# Altium footprint library OpenMV.PcbLib: 1 footprints
Each footprint in its own frame and in the unit in brackets; x right, y up, seen from the top. Pads: shape width x height; smd on the part's side, far side on the other; paste and mask are expansions set on the pad; w line width, h text height; cw(c..) or ccw(c..) is an arc to the next point about the centre after c.
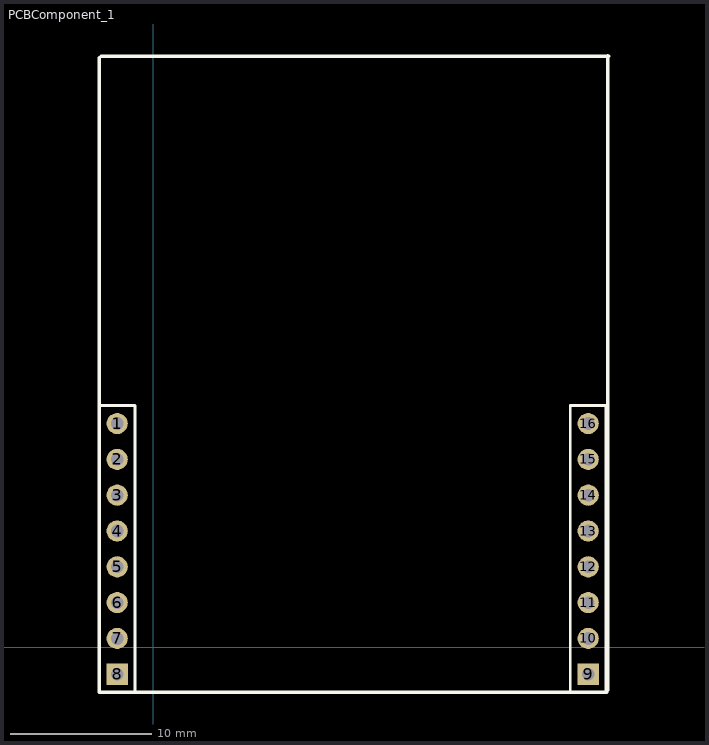
[diagram p0: the footprint, top view; thin cyan lines are the x and y axes]

## PCBComponent_1 [mm]
pads (16):
  round 1.5 hole 0.9: 1(-2.54,15.875) 2(-2.54,13.335) 3(-2.54,10.795) 4(-2.54,8.255) 5(-2.54,5.715) 6(-2.54,3.175) 7(-2.54,0.635) 10(30.861,0.635) 11(30.861,3.175) 12(30.861,5.715) 13(30.861,8.255) 14(30.861,10.795) 15(30.861,13.335) 16(30.861,15.875)
  rect 1.5x1.5 hole 0.9: 8(-2.54,-1.905) 9(30.861,-1.905)
Top Overlay:
  lines w0.2: -3.81,-3.175 -3.81,17.145 -1.27,17.145 -1.27,-3.175 -3.81,-3.175 ; 29.591,-3.175 29.591,17.145 32.131,17.145 32.131,-3.175 29.591,-3.175
  lines w0.254: -3.81,41.825 -3.81,-3.175 32.19,-3.175 ; -3.683,41.91 32.317,41.91 ; 32.258,-3.048 32.258,41.952